# Altium integrated library Altium_WE-PD2_rev19a.IntLib: 115 symbols (part 2 of 2)
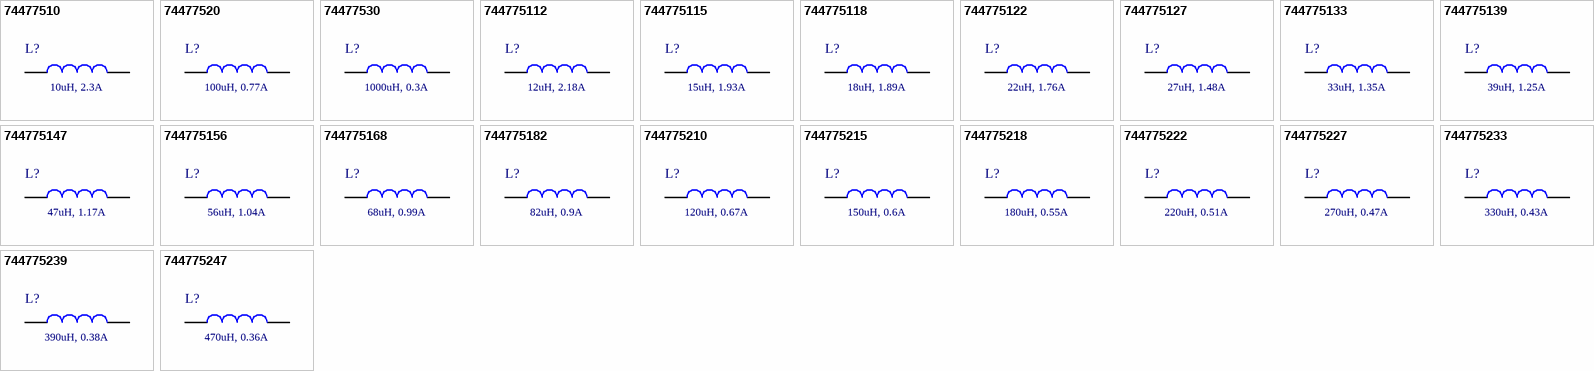
[diagram p5: symbols 74477510 to 744775247]

## 744775215
designator L?, comment 150uH, 0.6A
WE-PD2 SMT Power Inductor, size 7850, 150uH, 0.6A; Part Number: 744775215; Self Resonant Frequency: 6.2MHz; DC Resistance max.: 0.64Ohm; DC Resistance typ.: 0.467Ohm; Saturation Current: 0.71A; ComponentLink1Description: Manufacturer; ComponentLink1URL: http://www.we-online.de; ComponentLink2Description: Datasheet; ComponentLink2URL: https://www.we-online.com/catalog/datasheet/744775215.pdf; Published Date: December 2019; Publisher: Wurth Elektronik; Rated Current: 0.6A; Size: 7850; Mounting Technology: SMT; Inductance: 150uH; Packaging: Tape and Reel; Operating Temperature: -40 to +125degC
footprint WE-PD2_7850
pins: 1, 2

## 744775218
designator L?, comment 180uH, 0.55A
WE-PD2 SMT Power Inductor, size 7850, 180uH, 0.55A; Part Number: 744775218; Self Resonant Frequency: 5.8MHz; DC Resistance max.: 0.71Ohm; DC Resistance typ.: 0.574Ohm; Saturation Current: 0.57A; ComponentLink1Description: Manufacturer; ComponentLink1URL: http://www.we-online.de; ComponentLink2Description: Datasheet; ComponentLink2URL: https://www.we-online.com/catalog/datasheet/744775218.pdf; Published Date: December 2019; Publisher: Wurth Elektronik; Rated Current: 0.55A; Size: 7850; Mounting Technology: SMT; Inductance: 180uH; Packaging: Tape and Reel; Operating Temperature: -40 to +125degC
footprint WE-PD2_7850
pins: 1, 2

## 744775222
designator L?, comment 220uH, 0.51A
WE-PD2 SMT Power Inductor, size 7850, 220uH, 0.51A; Part Number: 744775222; Self Resonant Frequency: 5.4MHz; DC Resistance max.: 0.96Ohm; DC Resistance typ.: 0.614Ohm; Saturation Current: 0.56A; ComponentLink1Description: Manufacturer; ComponentLink1URL: http://www.we-online.de; ComponentLink2Description: Datasheet; ComponentLink2URL: https://www.we-online.com/catalog/datasheet/744775222.pdf; Published Date: December 2019; Publisher: Wurth Elektronik; Rated Current: 0.51A; Size: 7850; Mounting Technology: SMT; Inductance: 220uH; Packaging: Tape and Reel; Operating Temperature: -40 to +125degC
footprint WE-PD2_7850
pins: 1, 2

## 744775227
designator L?, comment 270uH, 0.47A
WE-PD2 SMT Power Inductor, size 7850, 270uH, 0.47A; Part Number: 744775227; Self Resonant Frequency: 4.7MHz; DC Resistance max.: 1.11Ohm; DC Resistance typ.: 0.699Ohm; Saturation Current: 0.51A; ComponentLink1Description: Manufacturer; ComponentLink1URL: http://www.we-online.de; ComponentLink2Description: Datasheet; ComponentLink2URL: https://www.we-online.com/catalog/datasheet/744775227.pdf; Published Date: December 2019; Publisher: Wurth Elektronik; Rated Current: 0.47A; Size: 7850; Mounting Technology: SMT; Inductance: 270uH; Packaging: Tape and Reel; Operating Temperature: -40 to +125degC
footprint WE-PD2_7850
pins: 1, 2

## 744775233
designator L?, comment 330uH, 0.43A
WE-PD2 SMT Power Inductor, size 7850, 330uH, 0.43A; Part Number: 744775233; Self Resonant Frequency: 4.2MHz; DC Resistance max.: 1.26Ohm; DC Resistance typ.: 0.81Ohm; Saturation Current: 0.48A; ComponentLink1Description: Manufacturer; ComponentLink1URL: http://www.we-online.de; ComponentLink2Description: Datasheet; ComponentLink2URL: https://www.we-online.com/catalog/datasheet/744775233.pdf; Published Date: December 2019; Publisher: Wurth Elektronik; Rated Current: 0.43A; Size: 7850; Mounting Technology: SMT; Inductance: 330uH; Packaging: Tape and Reel; Operating Temperature: -40 to +125degC
footprint WE-PD2_7850
pins: 1, 2

## 744775239
designator L?, comment 390uH, 0.38A
WE-PD2 SMT Power Inductor, size 7850, 390uH, 0.38A; Part Number: 744775239; Self Resonant Frequency: 3.9MHz; DC Resistance max.: 1.77Ohm; DC Resistance typ.: 1.151Ohm; Saturation Current: 0.43A; ComponentLink1Description: Manufacturer; ComponentLink1URL: http://www.we-online.de; ComponentLink2Description: Datasheet; ComponentLink2URL: https://www.we-online.com/catalog/datasheet/744775239.pdf; Published Date: December 2019; Publisher: Wurth Elektronik; Rated Current: 0.38A; Size: 7850; Mounting Technology: SMT; Inductance: 390uH; Packaging: Tape and Reel; Operating Temperature: -40 to +125degC
footprint WE-PD2_7850
pins: 1, 2

## 744775247
designator L?, comment 470uH, 0.36A
WE-PD2 SMT Power Inductor, size 7850, 470uH, 0.36A; Part Number: 744775247; Self Resonant Frequency: 3.4MHz; DC Resistance max.: 1.96Ohm; DC Resistance typ.: 1.37Ohm; Saturation Current: 0.38A; ComponentLink1Description: Manufacturer; ComponentLink1URL: http://www.we-online.de; ComponentLink2Description: Datasheet; ComponentLink2URL: https://www.we-online.com/catalog/datasheet/744775247.pdf; Published Date: December 2019; Publisher: Wurth Elektronik; Rated Current: 0.36A; Size: 7850; Mounting Technology: SMT; Inductance: 470uH; Packaging: Tape and Reel; Operating Temperature: -40 to +125degC
footprint WE-PD2_7850
pins: 1, 2


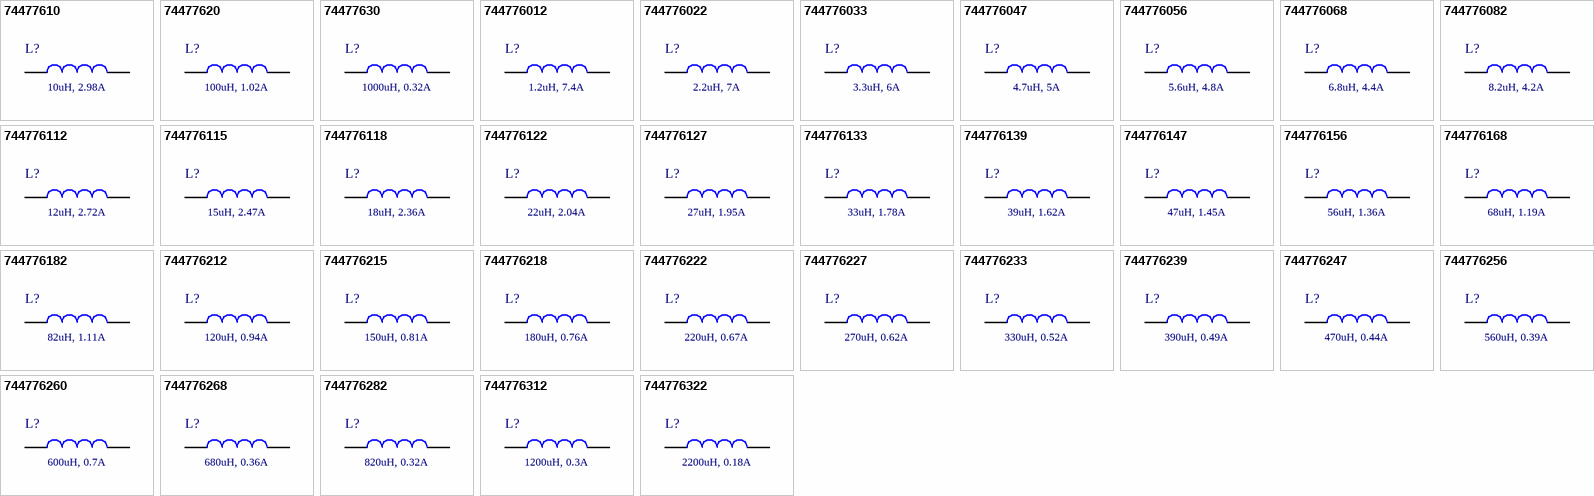
[diagram p4: symbols 74477610 to 744776322]

## 74477610
designator L?, comment 10uH, 2.98A
WE-PD2 SMT Power Inductor, size 1054, 10uH, 2.98A; Part Number: 74477610; Self Resonant Frequency: 24MHz; DC Resistance max.: 0.06Ohm; DC Resistance typ.: 0.028Ohm; Saturation Current: 3.24A; ComponentLink1Description: Manufacturer; ComponentLink1URL: http://www.we-online.de; ComponentLink2Description: Datasheet; ComponentLink2URL: https://www.we-online.com/catalog/datasheet/74477610.pdf; Published Date: December 2019; Publisher: Wurth Elektronik; Rated Current: 2.98A; Size: 1054; Mounting Technology: SMT; Inductance: 10uH; Packaging: Tape and Reel; Operating Temperature: -40 to +125degC
footprint WE-PD2_1054
pins: 1, 2

## 74477620
designator L?, comment 100uH, 1.02A
WE-PD2 SMT Power Inductor, size 1054, 100uH, 1.02A; Part Number: 74477620; Self Resonant Frequency: 7.5MHz; DC Resistance max.: 0.35Ohm; DC Resistance typ.: 0.2Ohm; Saturation Current: 1.1A; ComponentLink1Description: Manufacturer; ComponentLink1URL: http://www.we-online.de; ComponentLink2Description: Datasheet; ComponentLink2URL: https://www.we-online.com/catalog/datasheet/74477620.pdf; Published Date: December 2019; Publisher: Wurth Elektronik; Rated Current: 1.02A; Size: 1054; Mounting Technology: SMT; Inductance: 100uH; Packaging: Tape and Reel; Operating Temperature: -40 to +125degC
footprint WE-PD2_1054
pins: 1, 2

## 74477630
designator L?, comment 1000uH, 0.32A
WE-PD2 SMT Power Inductor, size 1054, 1000uH, 0.32A; Part Number: 74477630; Self Resonant Frequency: 2.3MHz; DC Resistance max.: 2.6Ohm; DC Resistance typ.: 2.2Ohm; Saturation Current: 0.38A; ComponentLink1Description: Manufacturer; ComponentLink1URL: http://www.we-online.de; ComponentLink2Description: Datasheet; ComponentLink2URL: https://www.we-online.com/catalog/datasheet/74477630.pdf; Published Date: December 2019; Publisher: Wurth Elektronik; Rated Current: 0.32A; Size: 1054; Mounting Technology: SMT; Inductance: 1000uH; Packaging: Tape and Reel; Operating Temperature: -40 to +125degC
footprint WE-PD2_1054
pins: 1, 2

## 744776012
designator L?, comment 1.2uH, 7.4A
WE-PD2 SMT Power Inductor, size 1054, 1.2uH, 7.4A; Part Number: 744776012; Self Resonant Frequency: 110MHz; DC Resistance max.: 0.006Ohm; DC Resistance typ.: 0.004Ohm; Saturation Current: 11A; ComponentLink1Description: Manufacturer; ComponentLink1URL: http://www.we-online.de; ComponentLink2Description: Datasheet; ComponentLink2URL: https://www.we-online.com/catalog/datasheet/744776012.pdf; Published Date: December 2019; Publisher: Wurth Elektronik; Rated Current: 7.4A; Size: 1054; Mounting Technology: SMT; Inductance: 1.2uH; Packaging: Tape and Reel; Operating Temperature: -40 to +125degC
footprint WE-PD2_1054
pins: 1, 2

## 744776022
designator L?, comment 2.2uH, 7A
WE-PD2 SMT Power Inductor, size 1054, 2.2uH, 7A; Part Number: 744776022; Self Resonant Frequency: 75MHz; DC Resistance max.: 0.01Ohm; DC Resistance typ.: 0.007Ohm; Saturation Current: 8A; ComponentLink1Description: Manufacturer; ComponentLink1URL: http://www.we-online.de; ComponentLink2Description: Datasheet; ComponentLink2URL: https://www.we-online.com/catalog/datasheet/744776022.pdf; Published Date: December 2019; Publisher: Wurth Elektronik; Rated Current: 7A; Size: 1054; Mounting Technology: SMT; Inductance: 2.2uH; Packaging: Tape and Reel; Operating Temperature: -40 to +125degC
footprint WE-PD2_1054
pins: 1, 2

## 744776033
designator L?, comment 3.3uH, 6A
WE-PD2 SMT Power Inductor, size 1054, 3.3uH, 6A; Part Number: 744776033; Self Resonant Frequency: 45MHz; DC Resistance max.: 0.015Ohm; DC Resistance typ.: 0.009Ohm; Saturation Current: 7A; ComponentLink1Description: Manufacturer; ComponentLink1URL: http://www.we-online.de; ComponentLink2Description: Datasheet; ComponentLink2URL: https://www.we-online.com/catalog/datasheet/744776033.pdf; Published Date: December 2019; Publisher: Wurth Elektronik; Rated Current: 6A; Size: 1054; Mounting Technology: SMT; Inductance: 3.3uH; Packaging: Tape and Reel; Operating Temperature: -40 to +125degC
footprint WE-PD2_1054
pins: 1, 2

## 744776047
designator L?, comment 4.7uH, 5A
WE-PD2 SMT Power Inductor, size 1054, 4.7uH, 5A; Part Number: 744776047; Self Resonant Frequency: 41MHz; DC Resistance max.: 0.017Ohm; DC Resistance typ.: 0.012Ohm; Saturation Current: 6A; ComponentLink1Description: Manufacturer; ComponentLink1URL: http://www.we-online.de; ComponentLink2Description: Datasheet; ComponentLink2URL: https://www.we-online.com/catalog/datasheet/744776047.pdf; Published Date: December 2019; Publisher: Wurth Elektronik; Rated Current: 5A; Size: 1054; Mounting Technology: SMT; Inductance: 4.7uH; Packaging: Tape and Reel; Operating Temperature: -40 to +125degC
footprint WE-PD2_1054
pins: 1, 2

## 744776056
designator L?, comment 5.6uH, 4.8A
WE-PD2 SMT Power Inductor, size 1054, 5.6uH, 4.8A; Part Number: 744776056; Self Resonant Frequency: 38MHz; DC Resistance max.: 0.019Ohm; DC Resistance typ.: 0.015Ohm; Saturation Current: 5.5A; ComponentLink1Description: Manufacturer; ComponentLink1URL: http://www.we-online.de; ComponentLink2Description: Datasheet; ComponentLink2URL: https://www.we-online.com/catalog/datasheet/744776056.pdf; Published Date: December 2019; Publisher: Wurth Elektronik; Rated Current: 4.8A; Size: 1054; Mounting Technology: SMT; Inductance: 5.6uH; Packaging: Tape and Reel; Operating Temperature: -40 to +125degC
footprint WE-PD2_1054
pins: 1, 2

## 744776068
designator L?, comment 6.8uH, 4.4A
WE-PD2 SMT Power Inductor, size 1054, 6.8uH, 4.4A; Part Number: 744776068; Self Resonant Frequency: 34MHz; DC Resistance max.: 0.022Ohm; DC Resistance typ.: 0.016Ohm; Saturation Current: 5A; ComponentLink1Description: Manufacturer; ComponentLink1URL: http://www.we-online.de; ComponentLink2Description: Datasheet; ComponentLink2URL: https://www.we-online.com/catalog/datasheet/744776068.pdf; Published Date: December 2019; Publisher: Wurth Elektronik; Rated Current: 4.4A; Size: 1054; Mounting Technology: SMT; Inductance: 6.8uH; Packaging: Tape and Reel; Operating Temperature: -40 to +125degC
footprint WE-PD2_1054
pins: 1, 2

## 744776082
designator L?, comment 8.2uH, 4.2A
WE-PD2 SMT Power Inductor, size 1054, 8.2uH, 4.2A; Part Number: 744776082; Self Resonant Frequency: 25MHz; DC Resistance max.: 0.026Ohm; DC Resistance typ.: 0.02Ohm; Saturation Current: 4.25A; ComponentLink1Description: Manufacturer; ComponentLink1URL: http://www.we-online.de; ComponentLink2Description: Datasheet; ComponentLink2URL: https://www.we-online.com/catalog/datasheet/744776082.pdf; Published Date: December 2019; Publisher: Wurth Elektronik; Rated Current: 4.2A; Size: 1054; Mounting Technology: SMT; Inductance: 8.2uH; Packaging: Tape and Reel; Operating Temperature: -40 to +125degC
footprint WE-PD2_1054
pins: 1, 2

## 744776112
designator L?, comment 12uH, 2.72A
WE-PD2 SMT Power Inductor, size 1054, 12uH, 2.72A; Part Number: 744776112; Self Resonant Frequency: 23MHz; DC Resistance max.: 0.07Ohm; DC Resistance typ.: 0.033Ohm; Saturation Current: 3.15A; ComponentLink1Description: Manufacturer; ComponentLink1URL: http://www.we-online.de; ComponentLink2Description: Datasheet; ComponentLink2URL: https://www.we-online.com/catalog/datasheet/744776112.pdf; Published Date: December 2019; Publisher: Wurth Elektronik; Rated Current: 2.72A; Size: 1054; Mounting Technology: SMT; Inductance: 12uH; Packaging: Tape and Reel; Operating Temperature: -40 to +125degC
footprint WE-PD2_1054
pins: 1, 2

## 744776115
designator L?, comment 15uH, 2.47A
WE-PD2 SMT Power Inductor, size 1054, 15uH, 2.47A; Part Number: 744776115; Self Resonant Frequency: 20MHz; DC Resistance max.: 0.08Ohm; DC Resistance typ.: 0.034Ohm; Saturation Current: 2.88A; ComponentLink1Description: Manufacturer; ComponentLink1URL: http://www.we-online.de; ComponentLink2Description: Datasheet; ComponentLink2URL: https://www.we-online.com/catalog/datasheet/744776115.pdf; Published Date: December 2019; Publisher: Wurth Elektronik; Rated Current: 2.47A; Size: 1054; Mounting Technology: SMT; Inductance: 15uH; Packaging: Tape and Reel; Operating Temperature: -40 to +125degC
footprint WE-PD2_1054
pins: 1, 2

## 744776118
designator L?, comment 18uH, 2.36A
WE-PD2 SMT Power Inductor, size 1054, 18uH, 2.36A; Part Number: 744776118; Self Resonant Frequency: 19MHz; DC Resistance max.: 0.09Ohm; DC Resistance typ.: 0.043Ohm; Saturation Current: 2.43A; ComponentLink1Description: Manufacturer; ComponentLink1URL: http://www.we-online.de; ComponentLink2Description: Datasheet; ComponentLink2URL: https://www.we-online.com/catalog/datasheet/744776118.pdf; Published Date: December 2019; Publisher: Wurth Elektronik; Rated Current: 2.36A; Size: 1054; Mounting Technology: SMT; Inductance: 18uH; Packaging: Tape and Reel; Operating Temperature: -40 to +125degC
footprint WE-PD2_1054
pins: 1, 2

## 744776122
designator L?, comment 22uH, 2.04A
WE-PD2 SMT Power Inductor, size 1054, 22uH, 2.04A; Part Number: 744776122; Self Resonant Frequency: 16MHz; DC Resistance max.: 0.1Ohm; DC Resistance typ.: 0.051Ohm; Saturation Current: 2.07A; ComponentLink1Description: Manufacturer; ComponentLink1URL: http://www.we-online.de; ComponentLink2Description: Datasheet; ComponentLink2URL: https://www.we-online.com/catalog/datasheet/744776122.pdf; Published Date: December 2019; Publisher: Wurth Elektronik; Rated Current: 2.04A; Size: 1054; Mounting Technology: SMT; Inductance: 22uH; Packaging: Tape and Reel; Operating Temperature: -40 to +125degC
footprint WE-PD2_1054
pins: 1, 2

## 744776127
designator L?, comment 27uH, 1.95A
WE-PD2 SMT Power Inductor, size 1054, 27uH, 1.95A; Part Number: 744776127; Self Resonant Frequency: 15MHz; DC Resistance max.: 0.11Ohm; DC Resistance typ.: 0.063Ohm; Saturation Current: 1.98A; ComponentLink1Description: Manufacturer; ComponentLink1URL: http://www.we-online.de; ComponentLink2Description: Datasheet; ComponentLink2URL: https://www.we-online.com/catalog/datasheet/744776127.pdf; Published Date: December 2019; Publisher: Wurth Elektronik; Rated Current: 1.95A; Size: 1054; Mounting Technology: SMT; Inductance: 27uH; Packaging: Tape and Reel; Operating Temperature: -40 to +125degC
footprint WE-PD2_1054 (SMD Power Inductor, 2-Leads, body 10x9mm)
pins: 1, 2

## 744776133
designator L?, comment 33uH, 1.78A
WE-PD2 SMT Power Inductor, size 1054, 33uH, 1.78A; Part Number: 744776133; Self Resonant Frequency: 13MHz; DC Resistance max.: 0.12Ohm; DC Resistance typ.: 0.083Ohm; Saturation Current: 1.89A; ComponentLink1Description: Manufacturer; ComponentLink1URL: http://www.we-online.de; ComponentLink2Description: Datasheet; ComponentLink2URL: https://www.we-online.com/catalog/datasheet/744776133.pdf; Published Date: December 2019; Publisher: Wurth Elektronik; Rated Current: 1.78A; Size: 1054; Mounting Technology: SMT; Inductance: 33uH; Packaging: Tape and Reel; Operating Temperature: -40 to +125degC
footprint WE-PD2_1054
pins: 1, 2

## 744776139
designator L?, comment 39uH, 1.62A
WE-PD2 SMT Power Inductor, size 1054, 39uH, 1.62A; Part Number: 744776139; Self Resonant Frequency: 12MHz; DC Resistance max.: 0.14Ohm; DC Resistance typ.: 0.098Ohm; Saturation Current: 1.8A; ComponentLink1Description: Manufacturer; ComponentLink1URL: http://www.we-online.de; ComponentLink2Description: Datasheet; ComponentLink2URL: https://www.we-online.com/catalog/datasheet/744776139.pdf; Published Date: December 2019; Publisher: Wurth Elektronik; Rated Current: 1.62A; Size: 1054; Mounting Technology: SMT; Inductance: 39uH; Packaging: Tape and Reel; Operating Temperature: -40 to +125degC
footprint WE-PD2_1054
pins: 1, 2

## 744776147
designator L?, comment 47uH, 1.45A
WE-PD2 SMT Power Inductor, size 1054, 47uH, 1.45A; Part Number: 744776147; Self Resonant Frequency: 11MHz; DC Resistance max.: 0.17Ohm; DC Resistance typ.: 0.095Ohm; Saturation Current: 1.62A; ComponentLink1Description: Manufacturer; ComponentLink1URL: http://www.we-online.de; ComponentLink2Description: Datasheet; ComponentLink2URL: https://www.we-online.com/catalog/datasheet/744776147.pdf; Published Date: December 2019; Publisher: Wurth Elektronik; Rated Current: 1.45A; Size: 1054; Mounting Technology: SMT; Inductance: 47uH; Packaging: Tape and Reel; Operating Temperature: -40 to +125degC
footprint WE-PD2_1054
pins: 1, 2

## 744776156
designator L?, comment 56uH, 1.36A
WE-PD2 SMT Power Inductor, size 1054, 56uH, 1.36A; Part Number: 744776156; Self Resonant Frequency: 10MHz; DC Resistance max.: 0.19Ohm; DC Resistance typ.: 0.112Ohm; Saturation Current: 1.53A; ComponentLink1Description: Manufacturer; ComponentLink1URL: http://www.we-online.de; ComponentLink2Description: Datasheet; ComponentLink2URL: https://www.we-online.com/catalog/datasheet/744776156.pdf; Published Date: December 2019; Publisher: Wurth Elektronik; Rated Current: 1.36A; Size: 1054; Mounting Technology: SMT; Inductance: 56uH; Packaging: Tape and Reel; Operating Temperature: -40 to +125degC
footprint WE-PD2_1054
pins: 1, 2

## 744776168
designator L?, comment 68uH, 1.19A
WE-PD2 SMT Power Inductor, size 1054, 68uH, 1.19A; Part Number: 744776168; Self Resonant Frequency: 9MHz; DC Resistance max.: 0.22Ohm; DC Resistance typ.: 0.138Ohm; Saturation Current: 1.49A; ComponentLink1Description: Manufacturer; ComponentLink1URL: http://www.we-online.de; ComponentLink2Description: Datasheet; ComponentLink2URL: https://www.we-online.com/catalog/datasheet/744776168.pdf; Published Date: December 2019; Publisher: Wurth Elektronik; Rated Current: 1.19A; Size: 1054; Mounting Technology: SMT; Inductance: 68uH; Packaging: Tape and Reel; Operating Temperature: -40 to +125degC
footprint WE-PD2_1054
pins: 1, 2

## 744776182
designator L?, comment 82uH, 1.11A
WE-PD2 SMT Power Inductor, size 1054, 82uH, 1.11A; Part Number: 744776182; Self Resonant Frequency: 8MHz; DC Resistance max.: 0.25Ohm; DC Resistance typ.: 0.15Ohm; Saturation Current: 1.17A; ComponentLink1Description: Manufacturer; ComponentLink1URL: http://www.we-online.de; ComponentLink2Description: Datasheet; ComponentLink2URL: https://www.we-online.com/catalog/datasheet/744776182.pdf; Published Date: December 2019; Publisher: Wurth Elektronik; Rated Current: 1.11A; Size: 1054; Mounting Technology: SMT; Inductance: 82uH; Packaging: Tape and Reel; Operating Temperature: -40 to +125degC
footprint WE-PD2_1054
pins: 1, 2

## 744776212
designator L?, comment 120uH, 0.94A
WE-PD2 SMT Power Inductor, size 1054, 120uH, 0.94A; Part Number: 744776212; Self Resonant Frequency: 6.5MHz; DC Resistance max.: 0.4Ohm; DC Resistance typ.: 0.243Ohm; Saturation Current: 0.99A; ComponentLink1Description: Manufacturer; ComponentLink1URL: http://www.we-online.de; ComponentLink2Description: Datasheet; ComponentLink2URL: https://www.we-online.com/catalog/datasheet/744776212.pdf; Published Date: December 2019; Publisher: Wurth Elektronik; Rated Current: 0.94A; Size: 1054; Mounting Technology: SMT; Inductance: 120uH; Packaging: Tape and Reel; Operating Temperature: -40 to +125degC
footprint WE-PD2_1054
pins: 1, 2

## 744776215
designator L?, comment 150uH, 0.81A
WE-PD2 SMT Power Inductor, size 1054, 150uH, 0.81A; Part Number: 744776215; Self Resonant Frequency: 6MHz; DC Resistance max.: 0.47Ohm; DC Resistance typ.: 0.3Ohm; Saturation Current: 0.9A; ComponentLink1Description: Manufacturer; ComponentLink1URL: http://www.we-online.de; ComponentLink2Description: Datasheet; ComponentLink2URL: https://www.we-online.com/catalog/datasheet/744776215.pdf; Published Date: December 2019; Publisher: Wurth Elektronik; Rated Current: 0.81A; Size: 1054; Mounting Technology: SMT; Inductance: 150uH; Packaging: Tape and Reel; Operating Temperature: -40 to +125degC
footprint WE-PD2_1054
pins: 1, 2

## 744776218
designator L?, comment 180uH, 0.76A
WE-PD2 SMT Power Inductor, size 1054, 180uH, 0.76A; Part Number: 744776218; Self Resonant Frequency: 5.4MHz; DC Resistance max.: 0.63Ohm; DC Resistance typ.: 0.32Ohm; Saturation Current: 0.78A; ComponentLink1Description: Manufacturer; ComponentLink1URL: http://www.we-online.de; ComponentLink2Description: Datasheet; ComponentLink2URL: https://www.we-online.com/catalog/datasheet/744776218.pdf; Published Date: December 2019; Publisher: Wurth Elektronik; Rated Current: 0.76A; Size: 1054; Mounting Technology: SMT; Inductance: 180uH; Packaging: Tape and Reel; Operating Temperature: -40 to +125degC
footprint WE-PD2_1054
pins: 1, 2

## 744776222
designator L?, comment 220uH, 0.67A
WE-PD2 SMT Power Inductor, size 1054, 220uH, 0.67A; Part Number: 744776222; Self Resonant Frequency: 5MHz; DC Resistance max.: 0.73Ohm; DC Resistance typ.: 0.451Ohm; Saturation Current: 0.77A; ComponentLink1Description: Manufacturer; ComponentLink1URL: http://www.we-online.de; ComponentLink2Description: Datasheet; ComponentLink2URL: https://www.we-online.com/catalog/datasheet/744776222.pdf; Published Date: December 2019; Publisher: Wurth Elektronik; Rated Current: 0.67A; Size: 1054; Mounting Technology: SMT; Inductance: 220uH; Packaging: Tape and Reel; Operating Temperature: -40 to +125degC
footprint WE-PD2_1054
pins: 1, 2

## 744776227
designator L?, comment 270uH, 0.62A
WE-PD2 SMT Power Inductor, size 1054, 270uH, 0.62A; Part Number: 744776227; Self Resonant Frequency: 4.3MHz; DC Resistance max.: 0.97Ohm; DC Resistance typ.: 0.5Ohm; Saturation Current: 0.68A; ComponentLink1Description: Manufacturer; ComponentLink1URL: http://www.we-online.de; ComponentLink2Description: Datasheet; ComponentLink2URL: https://www.we-online.com/catalog/datasheet/744776227.pdf; Published Date: December 2019; Publisher: Wurth Elektronik; Rated Current: 0.62A; Size: 1054; Mounting Technology: SMT; Inductance: 270uH; Packaging: Tape and Reel; Operating Temperature: -40 to +125degC
footprint WE-PD2_1054
pins: 1, 2

## 744776233
designator L?, comment 330uH, 0.52A
WE-PD2 SMT Power Inductor, size 1054, 330uH, 0.52A; Part Number: 744776233; Self Resonant Frequency: 4.1MHz; DC Resistance max.: 1.15Ohm; DC Resistance typ.: 0.75Ohm; Saturation Current: 0.59A; ComponentLink1Description: Manufacturer; ComponentLink1URL: http://www.we-online.de; ComponentLink2Description: Datasheet; ComponentLink2URL: https://www.we-online.com/catalog/datasheet/744776233.pdf; Published Date: December 2019; Publisher: Wurth Elektronik; Rated Current: 0.52A; Size: 1054; Mounting Technology: SMT; Inductance: 330uH; Packaging: Tape and Reel; Operating Temperature: -40 to +125degC
footprint WE-PD2_1054
pins: 1, 2

## 744776239
designator L?, comment 390uH, 0.49A
WE-PD2 SMT Power Inductor, size 1054, 390uH, 0.49A; Part Number: 744776239; Self Resonant Frequency: 3.9MHz; DC Resistance max.: 1.3Ohm; DC Resistance typ.: 0.794Ohm; Saturation Current: 0.54A; ComponentLink1Description: Manufacturer; ComponentLink1URL: http://www.we-online.de; ComponentLink2Description: Datasheet; ComponentLink2URL: https://www.we-online.com/catalog/datasheet/744776239.pdf; Published Date: December 2019; Publisher: Wurth Elektronik; Rated Current: 0.49A; Size: 1054; Mounting Technology: SMT; Inductance: 390uH; Packaging: Tape and Reel; Operating Temperature: -40 to +125degC
footprint WE-PD2_1054
pins: 1, 2

## 744776247
designator L?, comment 470uH, 0.44A
WE-PD2 SMT Power Inductor, size 1054, 470uH, 0.44A; Part Number: 744776247; Self Resonant Frequency: 3.4MHz; DC Resistance max.: 1.48Ohm; DC Resistance typ.: 0.969Ohm; Saturation Current: 0.5A; ComponentLink1Description: Manufacturer; ComponentLink1URL: http://www.we-online.de; ComponentLink2Description: Datasheet; ComponentLink2URL: https://www.we-online.com/catalog/datasheet/744776247.pdf; Published Date: December 2019; Publisher: Wurth Elektronik; Rated Current: 0.44A; Size: 1054; Mounting Technology: SMT; Inductance: 470uH; Packaging: Tape and Reel; Operating Temperature: -40 to +125degC
footprint WE-PD2_1054
pins: 1, 2

## 744776256
designator L?, comment 560uH, 0.39A
WE-PD2 SMT Power Inductor, size 1054, 560uH, 0.39A; Part Number: 744776256; Self Resonant Frequency: 3MHz; DC Resistance max.: 1.9Ohm; DC Resistance typ.: 1.047Ohm; Saturation Current: 0.47A; ComponentLink1Description: Manufacturer; ComponentLink1URL: http://www.we-online.de; ComponentLink2Description: Datasheet; ComponentLink2URL: https://www.we-online.com/catalog/datasheet/744776256.pdf; Published Date: December 2019; Publisher: Wurth Elektronik; Rated Current: 0.39A; Size: 1054; Mounting Technology: SMT; Inductance: 560uH; Packaging: Tape and Reel; Operating Temperature: -40 to +125degC
footprint WE-PD2_1054
pins: 1, 2

## 744776260
designator L?, comment 600uH, 0.7A
WE-PD2 SMT Power Inductor, size 1054, 600uH, 0.7A; Part Number: 744776260; Self Resonant Frequency: 2.9MHz; DC Resistance max.: 1.39Ohm; DC Resistance typ.: 1.17Ohm; Saturation Current: 0.6A; ComponentLink1Description: Manufacturer; ComponentLink1URL: http://www.we-online.de; ComponentLink2Description: Datasheet; ComponentLink2URL: https://www.we-online.com/catalog/datasheet/744776260.pdf; Published Date: December 2019; Publisher: Wurth Elektronik; Rated Current: 0.7A; Size: 1054; Mounting Technology: SMT; Inductance: 600uH; Packaging: Tape and Reel; Operating Temperature: -40 to +125degC
footprint WE-PD2_1054
pins: 1, 2

## 744776268
designator L?, comment 680uH, 0.36A
WE-PD2 SMT Power Inductor, size 1054, 680uH, 0.36A; Part Number: 744776268; Self Resonant Frequency: 2.7MHz; DC Resistance max.: 2.25Ohm; DC Resistance typ.: 1.245Ohm; Saturation Current: 0.43A; ComponentLink1Description: Manufacturer; ComponentLink1URL: http://www.we-online.de; ComponentLink2Description: Datasheet; ComponentLink2URL: https://www.we-online.com/catalog/datasheet/744776268.pdf; Published Date: December 2019; Publisher: Wurth Elektronik; Rated Current: 0.36A; Size: 1054; Mounting Technology: SMT; Inductance: 680uH; Packaging: Tape and Reel; Operating Temperature: -40 to +125degC
footprint WE-PD2_1054
pins: 1, 2

## 744776282
designator L?, comment 820uH, 0.32A
WE-PD2 SMT Power Inductor, size 1054, 820uH, 0.32A; Part Number: 744776282; Self Resonant Frequency: 2.5MHz; DC Resistance max.: 2.55Ohm; DC Resistance typ.: 1.42Ohm; Saturation Current: 0.41A; ComponentLink1Description: Manufacturer; ComponentLink1URL: http://www.we-online.de; ComponentLink2Description: Datasheet; ComponentLink2URL: https://www.we-online.com/catalog/datasheet/744776282.pdf; Published Date: December 2019; Publisher: Wurth Elektronik; Rated Current: 0.32A; Size: 1054; Mounting Technology: SMT; Inductance: 820uH; Packaging: Tape and Reel; Operating Temperature: -40 to +125degC
footprint WE-PD2_1054
pins: 1, 2

## 744776312
designator L?, comment 1200uH, 0.3A
WE-PD2 SMT Power Inductor, size 1054, 1200uH, 0.3A; Part Number: 744776312; Self Resonant Frequency: 2.1MHz; DC Resistance max.: 3Ohm; DC Resistance typ.: 2.48Ohm; Saturation Current: 0.38A; ComponentLink1Description: Manufacturer; ComponentLink1URL: http://www.we-online.de; ComponentLink2Description: Datasheet; ComponentLink2URL: https://www.we-online.com/catalog/datasheet/744776312.pdf; Published Date: December 2019; Publisher: Wurth Elektronik; Rated Current: 0.3A; Size: 1054; Mounting Technology: SMT; Inductance: 1200uH; Packaging: Tape and Reel; Operating Temperature: -40 to +125degC
footprint WE-PD2_1054
pins: 1, 2

## 744776322
designator L?, comment 2200uH, 0.18A
WE-PD2 SMT Power Inductor, size 1054, 2200uH, 0.18A; Part Number: 744776322; Self Resonant Frequency: 1.4MHz; DC Resistance max.: 5.3Ohm; DC Resistance typ.: 4.4Ohm; Saturation Current: 0.26A; ComponentLink1Description: Manufacturer; ComponentLink1URL: http://www.we-online.de; ComponentLink2Description: Datasheet; ComponentLink2URL: https://www.we-online.com/catalog/datasheet/744776322.pdf; Published Date: December 2019; Publisher: Wurth Elektronik; Rated Current: 0.18A; Size: 1054; Mounting Technology: SMT; Inductance: 2200uH; Packaging: Tape and Reel; Operating Temperature: -40 to +125degC
footprint WE-PD2_1054
pins: 1, 2